# EAGLE library part 794681-6 (library con-amp1)
Micro MATE-N-LOK Connectors grid 1.5mm Dual Row Through Hole Vertical Metal Through Hole Holddowns Source: ENG_CD_794681_E.pdf
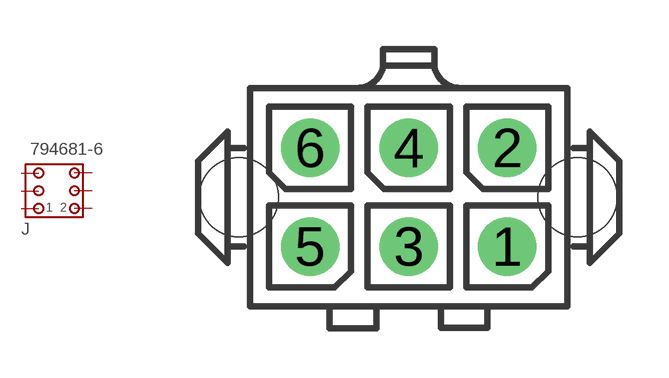
[diagram p160: symbol with the pads of 794681-6; footprint 794681-6]

Designator prefix J

## 794681-6  [794681-6]
1  1  pas
2  2  pas
3  3  pas
4  4  pas
5  5  pas
6  6  pas

## Footprint 794681-6 (pad centres in mm)
Micro MATE-N-LOK Connectors grid 1.5mm Dual Row Through Hole Vertical Metal Through Hole Holddowns Source: ENG_CD_794681_E.pdf
drill 1 pad 1.778 round: 1 3,-1.5; 2 3,1.5; 3 0,-1.5; 4 0,1.5; 5 -3,-1.5; 6 -3,1.5
hole 2.4 at 5.13,0
hole 2.4 at -5.17,0